# EAGLE library part MKDS1/6-3,81 (library con-phoenix-381)
MKDS 1/6-3,81 - Order No. 1727052 Pitch: 3,81mm Number of terminals: 6 Rated Voltage: 160V Maximum load current/ cross section: 12A/1.5mm2-AWG16 Housing Interlocking: none Color: Green
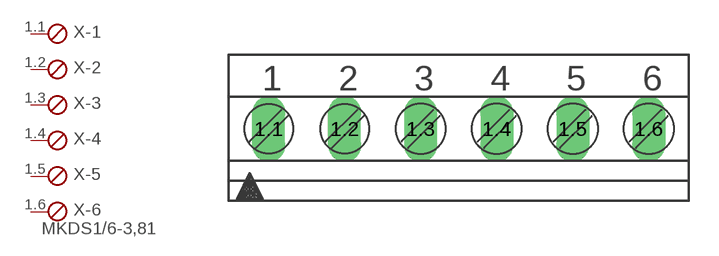
[diagram p0: symbol with the pads of 6POL381; footprint 6POL381]

Designator prefix X; gates -1=SKB -2=SKB -3=SKB -4=SKB -5=SKB -6=SKBV

## MKDS1/6-3,81  [6POL381]
1.1  -1:1  pas
1.2  -2:1  pas
1.3  -3:1  pas
1.4  -4:1  pas
1.5  -5:1  pas
1.6  -6:1  pas

## Footprint 6POL381 (pad centres in mm)
PHOENIX CONNECTOR 6 POL 3.81
drill 1.1 long: 1.1 0,0; 1.2 3.81,0; 1.3 7.62,0; 1.4 11.43,0; 1.5 15.24,0; 1.6 19.05,0